# Altium footprint library User2.PcbLib: 4 footprints
Each footprint in its own frame and in the unit in brackets; x right, y up, seen from the top. Pads: shape width x height; smd on the part's side, far side on the other; paste and mask are expansions set on the pad; w line width, h text height; cw(c..) or ccw(c..) is an arc to the next point about the centre after c.
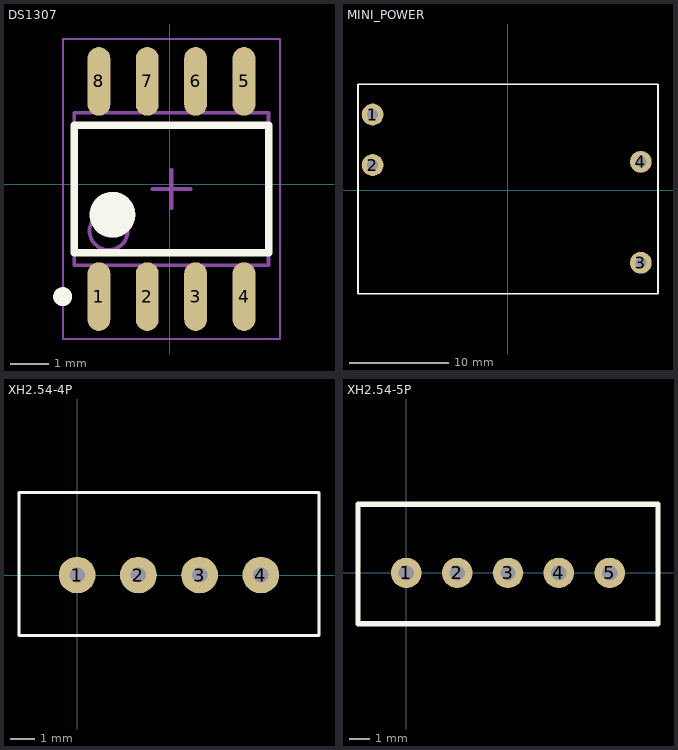
[diagram p0: the footprints below, top view; thin cyan lines are the x and y axes]

## DS1307 [mm]
pads (8):
  oval 0.6x1.8 smd: 1(-1.854,-2.952) 2(-0.584,-2.952) 3(0.686,-2.952) 4(1.956,-2.952) 5(1.956,2.698) 6(0.686,2.698) 7(-0.584,2.698) 8(-1.854,2.698)
Top Overlay:
  circle w0.6: c-1.499,-0.802 r0.3
  circle w0.25: c-2.804,-2.952 r0.125
  lines w0.2: -2.499,-1.802 -2.499,1.548 2.601,1.548 2.601,-1.802 -2.499,-1.802
Mechanical 13:
  circle w0.1: c-1.599,-1.227 r0.5
  lines w0.1: -2.499,-2.127 -2.499,1.873 2.601,1.873 2.601,-2.127 -2.499,-2.127
Mechanical 15:
  lines w0.05: -2.799,-4.064 -2.799,3.81 2.901,3.81 2.901,-4.064 -2.799,-4.064
  lines w0.1: -0.449,-0.127 0.551,-0.127 ; 0.051,-0.627 0.051,0.373
3D body "CircuitWorks-SO-8 (PIC12FXXX).step": height 1.6, standoff 0, extent -2.399,-3.122 2.501,2.868

## MINI_POWER [mm]
pads (4):
  round 2.2 hole 1.1: 1(-13.589,7.62) 2(-13.589,2.54) 3(13.411,-7.3) 4(13.411,2.86)
Top Overlay:
  lines w0.178: -15.062,-10.414 15.141,-10.414 15.141,10.668 -15.062,10.668 -15.062,-10.414
3D body "???? ??????? 5 ?-700??.STEP": height 14.51, standoff 0.01, extent -15,-10.373 15,10.627

## XH2.54-4P [mil]
pads (4):
  round 60 hole 25: 1(0,0) 2(100,0) 3(200,0) 4(300,0)
Top Overlay:
  lines w5: -95,-99 395,-99 395,135 -95,135 -95,-99
3D body "JST - XH - Thru (V) - 4Pin - 2.54mm.stp": height 284, standoff -118, extent -91.99,-97.99 392.01,132.01

## XH2.54-5P [mil]
pads (5):
  round 60 hole 30: 1(0,0) 2(100,0) 3(200,0) 4(300,0) 5(400,0)
Top Overlay:
  lines w10: -95,-100 495,-100 495,135 -95,135 -95,-100
3D body "JST - XH - Thru (V) - 5Pin - 2.54mm.stp": height 118, standoff -284, extent -91.99,-97.99 492.01,132.01